# Altium footprint library 4153.20-6.PcbLib: 1 footprints
Each footprint in its own frame and in the unit in brackets; x right, y up, seen from the top. Pads: shape width x height; smd on the part's side, far side on the other; paste and mask are expansions set on the pad; w line width, h text height; cw(c..) or ccw(c..) is an arc to the next point about the centre after c.
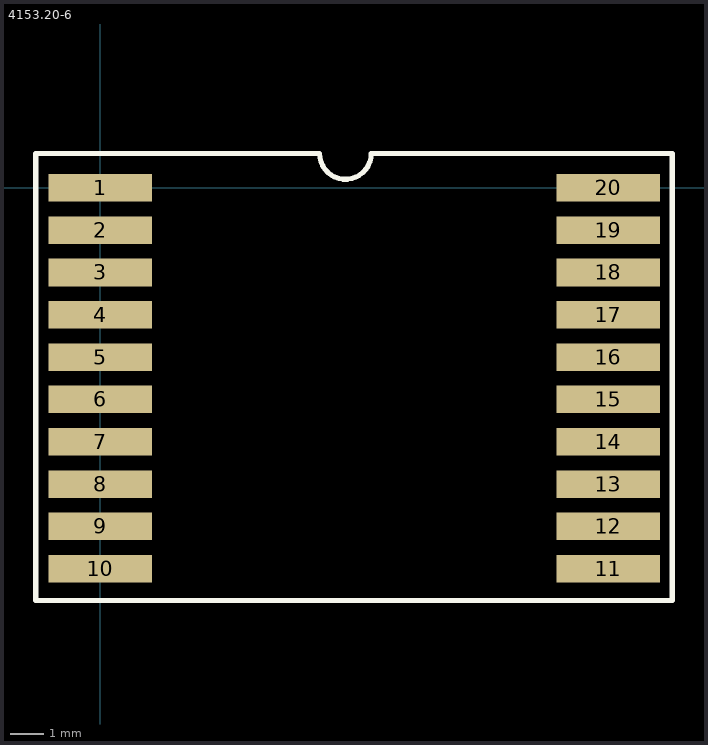
[diagram p0: the footprint, top view; thin cyan lines are the x and y axes]

## 4153.20-6 [mil]
pads (20):
  rect 120x32 smd: 1(0,0) 2(0,-49.21) 3(0,-98.43) 4(0,-147.64) 5(0,-196.85) 6(0,-246.06) 7(0,-295.28) 8(0,-344.49) 9(0,-393.7) 10(0,-442.91) 11(590.55,-442.91) 12(590.55,-393.7) 13(590.55,-344.49) 14(590.55,-295.28) 15(590.55,-246.06) 16(590.55,-196.85) 17(590.55,-147.64) 18(590.55,-98.43) 19(590.55,-49.21) 20(590.55,0)
TopOverlay:
  lines w6: -75,-480 -75,40 255,40 ccw(c285,40) 315,40 665,40 665,-480 -75,-480